# Altium footprint library 封装库.PcbLib: 324 footprints (part 19 of 21)
Each footprint in its own frame and in the unit in brackets; x right, y up, seen from the top. Pads: shape width x height; smd on the part's side, far side on the other; paste and mask are expansions set on the pad; w line width, h text height; cw(c..) or ccw(c..) is an arc to the next point about the centre after c.
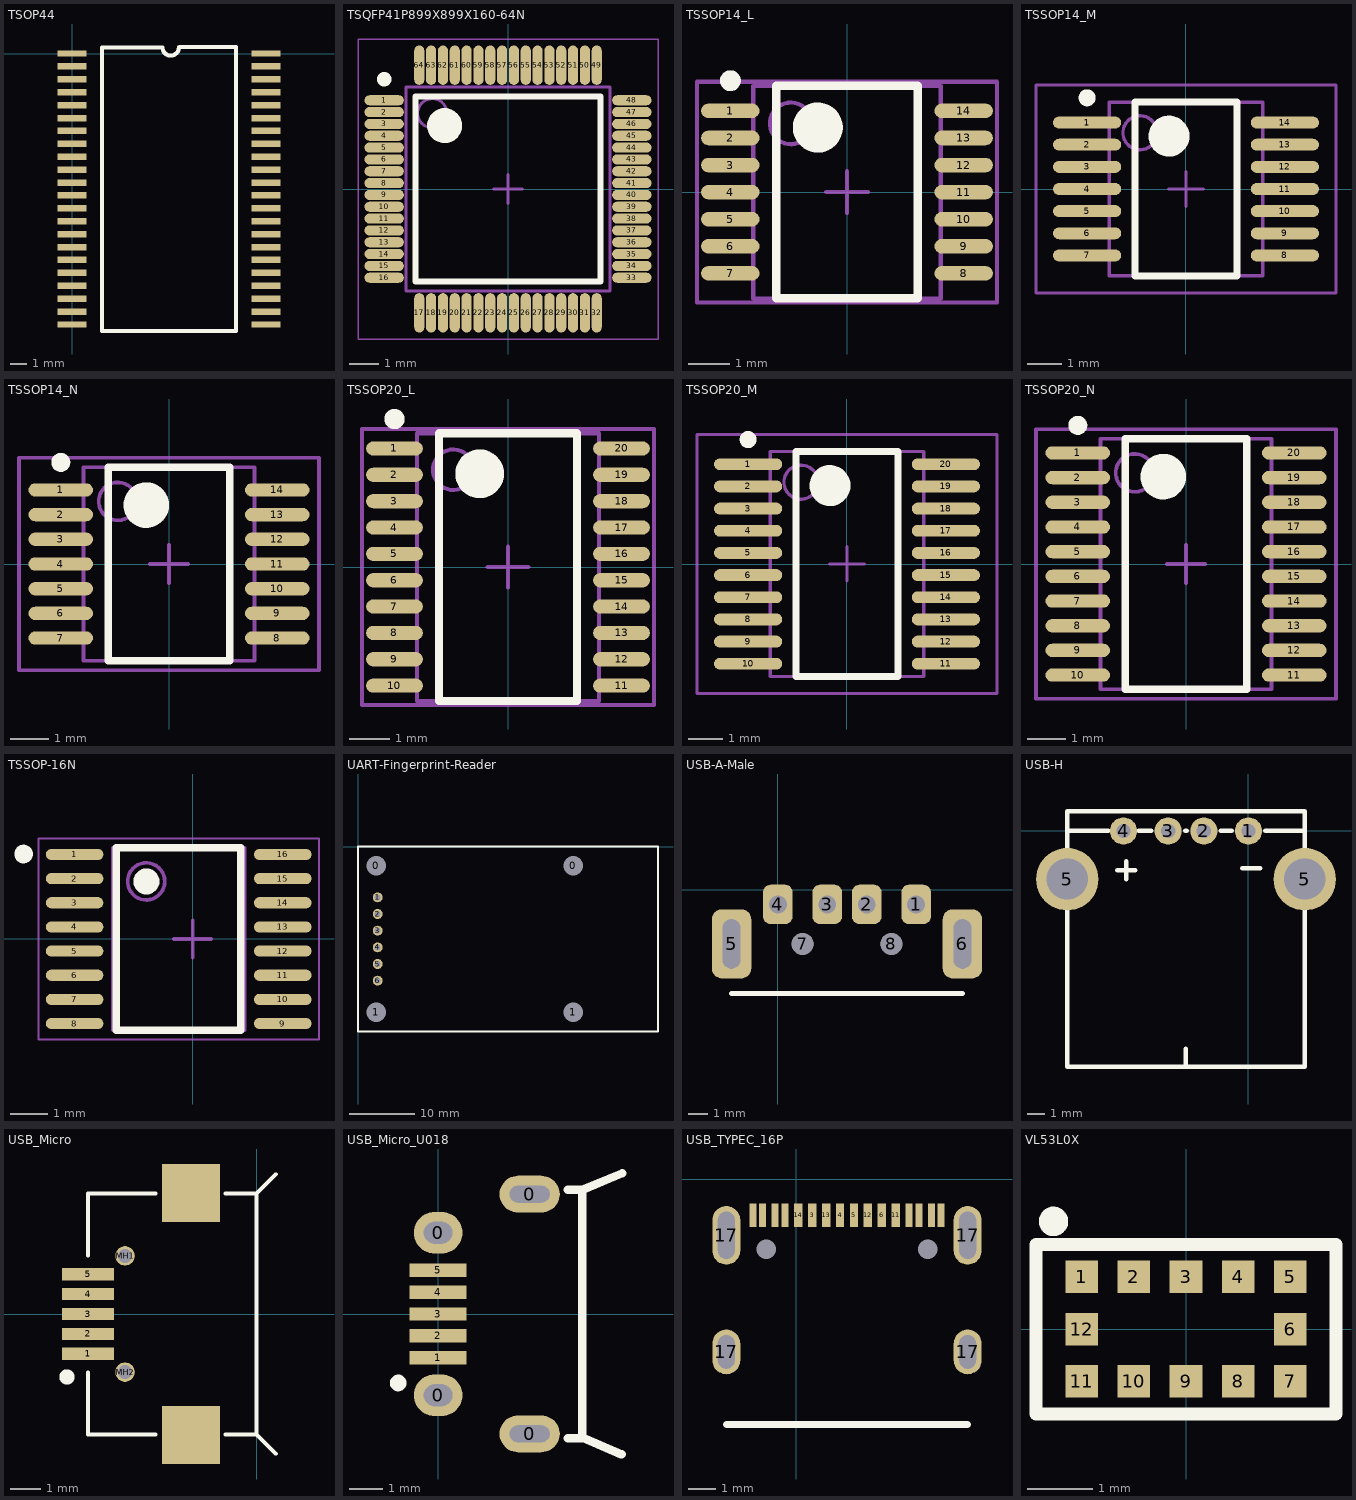
[diagram p18: the footprints below, top view; thin cyan lines are the x and y axes]

## TSOP44 [mm]
pads (44):
  rect 1.8x0.4 smd: 1(-0.009,0.001) 2(-0.009,-0.799) 3(-0.009,-1.599) 4(-0.009,-2.399) 5(-0.009,-3.199) 6(-0.009,-3.999) 7(-0.009,-4.799) 8(-0.009,-5.599) 9(-0.009,-6.399) 10(-0.009,-7.199) 11(-0.009,-7.999) 12(-0.009,-8.799) 13(-0.009,-9.599) 14(-0.009,-10.399) 15(-0.009,-11.199) 16(-0.009,-11.999) 17(-0.009,-12.799) 18(-0.009,-13.599) 19(-0.009,-14.399) 20(-0.009,-15.199) 21(-0.009,-15.999) 22(-0.009,-16.799) 23(11.991,-16.799) 24(11.991,-15.999) 25(11.991,-15.199) 26(11.991,-14.399) 27(11.991,-13.599) 28(11.991,-12.799) 29(11.991,-11.999) 30(11.991,-11.199) 31(11.991,-10.399) 32(11.991,-9.599) 33(11.991,-8.799) 34(11.991,-7.999) 35(11.991,-7.199) 36(11.991,-6.399) 37(11.991,-5.599) 38(11.991,-4.799) 39(11.991,-3.999) 40(11.991,-3.199) 41(11.991,-2.399) 42(11.991,-1.599) 43(11.991,-0.799) 44(11.991,0.001)
Top Overlay:
  lines w0.2: 1.826,-17.199 10.156,-17.199
  lines w0.254: 6.604,0.381 cw(c6.096,0.381) 5.588,0.381 1.846,0.381 1.846,-17.18 1.826,-17.199 10.156,-17.199 ; 6.624,0.401 10.156,0.401 10.156,-17.199 ; 10.156,-17.199 10.156,-17.199

## TSQFP41P899X899X160-64N [mm] "TSQFP, 64-Leads, Body 7.01x7.01mm, Pitch 0.41mm, IPC Medium Density"
height 1.6
pads (64):
  oval 1.35x0.35 smd: 1(-4.25,3.045) 2(-4.25,2.639) 3(-4.25,2.233) 4(-4.25,1.827) 5(-4.25,1.421) 6(-4.25,1.015) 7(-4.25,0.609) 8(-4.25,0.203) 9(-4.25,-0.203) 10(-4.25,-0.609) 11(-4.25,-1.015) 12(-4.25,-1.421) 13(-4.25,-1.827) 14(-4.25,-2.233) 15(-4.25,-2.639) 16(-4.25,-3.045) 33(4.25,-3.045) 34(4.25,-2.639) 35(4.25,-2.233) 36(4.25,-1.827) 37(4.25,-1.421) 38(4.25,-1.015) 39(4.25,-0.609) 40(4.25,-0.203) 41(4.25,0.203) 42(4.25,0.609) 43(4.25,1.015) 44(4.25,1.421) 45(4.25,1.827) 46(4.25,2.233) 47(4.25,2.639) 48(4.25,3.045)
  oval 0.35x1.35 smd: 17(-3.045,-4.25) 18(-2.639,-4.25) 19(-2.233,-4.25) 20(-1.827,-4.25) 21(-1.421,-4.25) 22(-1.015,-4.25) 23(-0.609,-4.25) 24(-0.203,-4.25) 25(0.203,-4.25) 26(0.609,-4.25) 27(1.015,-4.25) 28(1.421,-4.25) 29(1.827,-4.25) 30(2.233,-4.25) 31(2.639,-4.25) 32(3.045,-4.25) 49(3.045,4.25) 50(2.639,4.25) 51(2.233,4.25) 52(1.827,4.25) 53(1.421,4.25) 54(1.015,4.25) 55(0.609,4.25) 56(0.203,4.25) 57(-0.203,4.25) 58(-0.609,4.25) 59(-1.015,4.25) 60(-1.421,4.25) 61(-1.827,4.25) 62(-2.233,4.25) 63(-2.639,4.25) 64(-3.045,4.25)
Top Overlay:
  circle w0.6: c-2.175,2.175 r0.3
  circle w0.25: c-4.25,3.77 r0.125
  lines w0.2: -3.175,-3.175 3.175,-3.175 3.175,3.175 -3.175,3.175 -3.175,-3.175
Mechanical 13:
  circle w0.1: c-2.6,2.6 r0.5
  lines w0.1: -3.5,-3.5 3.5,-3.5 3.5,3.5 -3.5,3.5 -3.5,-3.5
Mechanical 15:
  lines w0.05: -5.15,-5.15 5.15,-5.15 5.15,5.15 -5.15,5.15 -5.15,-5.15
  lines w0.1: -0.5,0 0.5,0 ; 0,-0.5 0,0.5
3D body: height 1.6, standoff 0.05, extent -3.5,-3.5 3.5,3.5

## TSSOP14_L [mm] "TSOP, 14-Leads, Body 5x4.4mm, Pitch 0.65mm, IPC High Density"
height 1.1
pads (14):
  oval 1.4x0.35 smd: 1(-2.8,1.95) 2(-2.8,1.3) 3(-2.8,0.65) 4(-2.8,0) 5(-2.8,-0.65) 6(-2.8,-1.3) 7(-2.8,-1.95) 8(2.8,-1.95) 9(2.8,-1.3) 10(2.8,-0.65) 11(2.8,0) 12(2.8,0.65) 13(2.8,1.3) 14(2.8,1.95)
Top Overlay:
  circle w0.6: c-0.7,1.55 r0.3
  circle w0.25: c-2.8,2.675 r0.125
  lines w0.2: -1.7,-2.55 1.7,-2.55 1.7,2.55 -1.7,2.55 -1.7,-2.55
Mechanical 13:
  circle w0.1: c-1.35,1.65 r0.5
  lines w0.1: -2.25,-2.55 2.25,-2.55 2.25,2.55 -2.25,2.55 -2.25,-2.55
Mechanical 15:
  lines w0.1: -0.5,0 0.5,0 ; 0,-0.5 0,0.5 ; -3.6,-2.65 3.6,-2.65 3.6,2.65 -3.6,2.65 -3.6,-2.65
3D body: height 1.1, standoff 0, extent -2.25,-2.55 2.25,2.55

## TSSOP14_M [mm] "TSOP, 14-Leads, Body 5x4.4mm, Pitch 0.65mm, IPC Low Density"
height 1.1
pads (14):
  oval 2x0.35 smd: 1(-2.9,1.95) 2(-2.9,1.3) 3(-2.9,0.65) 4(-2.9,0) 5(-2.9,-0.65) 6(-2.9,-1.3) 7(-2.9,-1.95) 8(2.9,-1.95) 9(2.9,-1.3) 10(2.9,-0.65) 11(2.9,0) 12(2.9,0.65) 13(2.9,1.3) 14(2.9,1.95)
Top Overlay:
  circle w0.25: c-2.9,2.675 r0.125
  circle w0.6: c-0.5,1.55 r0.3
  lines w0.2: -1.5,-2.55 -1.5,2.55 1.5,2.55 1.5,-2.55 -1.5,-2.55
Mechanical 13:
  circle w0.1: c-1.35,1.65 r0.5
  lines w0.1: -2.25,-2.55 -2.25,2.55 2.25,2.55 2.25,-2.55 -2.25,-2.55
Mechanical 15:
  lines w0.1: -0.5,0 0.5,0 ; 0,-0.5 0,0.5 ; -4.4,-3.05 -4.4,3.05 4.4,3.05 4.4,-3.05 -4.4,-3.05
3D body: height 1.1, standoff 0, extent -2.25,-2.55 2.25,2.55

## TSSOP14_N [mm] "TSOP, 14-Leads, Body 5x4.4mm, Pitch 0.65mm, IPC Medium Density"
height 1.1
pads (14):
  oval 1.7x0.35 smd: 1(-2.85,1.95) 2(-2.85,1.3) 3(-2.85,0.65) 4(-2.85,0) 5(-2.85,-0.65) 6(-2.85,-1.3) 7(-2.85,-1.95) 8(2.85,-1.95) 9(2.85,-1.3) 10(2.85,-0.65) 11(2.85,0) 12(2.85,0.65) 13(2.85,1.3) 14(2.85,1.95)
Top Overlay:
  circle w0.6: c-0.6,1.55 r0.3
  circle w0.25: c-2.85,2.675 r0.125
  lines w0.2: -1.6,-2.55 1.6,-2.55 1.6,2.55 -1.6,2.55 -1.6,-2.55
Mechanical 13:
  circle w0.1: c-1.35,1.65 r0.5
  lines w0.1: -2.25,-2.55 2.25,-2.55 2.25,2.55 -2.25,2.55 -2.25,-2.55
Mechanical 15:
  lines w0.1: -0.5,0 0.5,0 ; 0,-0.5 0,0.5 ; -3.95,-2.8 3.95,-2.8 3.95,2.8 -3.95,2.8 -3.95,-2.8
3D body: height 1.1, standoff 0, extent -2.25,-2.55 2.25,2.55

## TSSOP20_L [mm] "TSOP, 20-Leads, Body 6.5x4.4mm, Pitch 0.65mm, IPC High Density"
height 1.1
pads (20):
  oval 1.4x0.35 smd: 1(-2.8,2.925) 2(-2.8,2.275) 3(-2.8,1.625) 4(-2.8,0.975) 5(-2.8,0.325) 6(-2.8,-0.325) 7(-2.8,-0.975) 8(-2.8,-1.625) 9(-2.8,-2.275) 10(-2.8,-2.925) 11(2.8,-2.925) 12(2.8,-2.275) 13(2.8,-1.625) 14(2.8,-0.975) 15(2.8,-0.325) 16(2.8,0.325) 17(2.8,0.975) 18(2.8,1.625) 19(2.8,2.275) 20(2.8,2.925)
Top Overlay:
  circle w0.6: c-0.7,2.3 r0.3
  circle w0.25: c-2.8,3.65 r0.125
  lines w0.2: -1.7,-3.3 1.7,-3.3 1.7,3.3 -1.7,3.3 -1.7,-3.3
Mechanical 13:
  circle w0.1: c-1.35,2.4 r0.5
  lines w0.1: -2.25,-3.3 2.25,-3.3 2.25,3.3 -2.25,3.3 -2.25,-3.3
Mechanical 15:
  lines w0.1: -0.5,0 0.5,0 ; 0,-0.5 0,0.5 ; -3.6,-3.4 3.6,-3.4 3.6,3.4 -3.6,3.4 -3.6,-3.4
3D body: height 1.1, standoff 0, extent -2.25,-3.3 2.25,3.3

## TSSOP20_M [mm] "TSOP, 20-Leads, Body 6.5x4.4mm, Pitch 0.65mm, IPC Low Density"
height 1.1
pads (20):
  oval 2x0.35 smd: 1(-2.9,2.925) 2(-2.9,2.275) 3(-2.9,1.625) 4(-2.9,0.975) 5(-2.9,0.325) 6(-2.9,-0.325) 7(-2.9,-0.975) 8(-2.9,-1.625) 9(-2.9,-2.275) 10(-2.9,-2.925) 11(2.9,-2.925) 12(2.9,-2.275) 13(2.9,-1.625) 14(2.9,-0.975) 15(2.9,-0.325) 16(2.9,0.325) 17(2.9,0.975) 18(2.9,1.625) 19(2.9,2.275) 20(2.9,2.925)
Top Overlay:
  circle w0.6: c-0.5,2.3 r0.3
  circle w0.25: c-2.9,3.65 r0.125
  lines w0.2: -1.5,-3.3 1.5,-3.3 1.5,3.3 -1.5,3.3 -1.5,-3.3
Mechanical 13:
  circle w0.1: c-1.35,2.4 r0.5
  lines w0.1: -2.25,-3.3 2.25,-3.3 2.25,3.3 -2.25,3.3 -2.25,-3.3
Mechanical 15:
  lines w0.1: -0.5,0 0.5,0 ; 0,-0.5 0,0.5 ; -4.4,-3.8 4.4,-3.8 4.4,3.8 -4.4,3.8 -4.4,-3.8
3D body: height 1.1, standoff 0, extent -2.25,-3.3 2.25,3.3

## TSSOP20_N [mm] "TSOP, 20-Leads, Body 6.5x4.4mm, Pitch 0.65mm, IPC Medium Density"
height 1.1
pads (20):
  oval 1.7x0.35 smd: 1(-2.85,2.925) 2(-2.85,2.275) 3(-2.85,1.625) 4(-2.85,0.975) 5(-2.85,0.325) 6(-2.85,-0.325) 7(-2.85,-0.975) 8(-2.85,-1.625) 9(-2.85,-2.275) 10(-2.85,-2.925) 11(2.85,-2.925) 12(2.85,-2.275) 13(2.85,-1.625) 14(2.85,-0.975) 15(2.85,-0.325) 16(2.85,0.325) 17(2.85,0.975) 18(2.85,1.625) 19(2.85,2.275) 20(2.85,2.925)
Top Overlay:
  circle w0.6: c-0.6,2.3 r0.3
  circle w0.25: c-2.85,3.65 r0.125
  lines w0.2: -1.6,-3.3 1.6,-3.3 1.6,3.3 -1.6,3.3 -1.6,-3.3
Mechanical 13:
  circle w0.1: c-1.35,2.4 r0.5
  lines w0.1: -2.25,-3.3 2.25,-3.3 2.25,3.3 -2.25,3.3 -2.25,-3.3
Mechanical 15:
  lines w0.1: -0.5,0 0.5,0 ; 0,-0.5 0,0.5 ; -3.95,-3.55 3.95,-3.55 3.95,3.55 -3.95,3.55 -3.95,-3.55
3D body: height 1.1, standoff 0, extent -2.25,-3.3 2.25,3.3

## TSSOP-16N [mm] "TSOP, 16-Leads, Body 5.00x4.40mm, Pitch 0.65mm, IPC Medium Density"
height 1.2
pads (16):
  oval 1.55x0.3 smd: 1(-3.175,2.275) 2(-3.175,1.625) 3(-3.175,0.975) 4(-3.175,0.325) 5(-3.175,-0.325) 6(-3.175,-0.975) 7(-3.175,-1.625) 8(-3.175,-2.275) 9(2.425,-2.275) 10(2.425,-1.625) 11(2.425,-0.975) 12(2.425,-0.325) 13(2.425,0.325) 14(2.425,0.975) 15(2.425,1.625) 16(2.425,2.275)
Top Overlay:
  circle w0.4: c-1.245,1.549 r0.15
  circle w0.25: c-4.547,2.286 r0.125
  lines w0.2: -2.05,-2.45 1.3,-2.45 1.3,2.45 -2.05,2.45 -2.05,-2.45
Mechanical 13:
  circle w0.1: c-1.25,1.55 r0.5
  lines w0.1: -2.15,-2.45 1.4,-2.45 1.4,2.45 -2.15,2.45 -2.15,-2.45
Mechanical 15:
  lines w0.05: -4.15,-2.7 3.4,-2.7 3.4,2.7 -4.15,2.7 -4.15,-2.7
  lines w0.1: -0.5,0 0.5,0 ; 0,-0.5 0,0.5
3D body: height 1.2, standoff 0.1, extent -2.15,-2.45 1.4,2.45

## UART-Fingerprint-Reader [mm] "微雪指纹模块"
pads (10):
  round 2 hole 3 unplated: 0(2.79,-2.92) 0(32.79,-2.92) 1(2.79,-25.27) 1(32.79,-25.27)
  round 1.5 hole 0.9 unplated: 1(3,-7.745) 2(3,-10.285) 3(3,-12.825) 4(3,-15.365) 5(3,-17.905) 6(3,-20.445)
Top Overlay:
  lines w0.254: 0,-28.19 0,0 45.72,0 45.72,-28.19 0,-28.19

## USB-A-Male [mm]
pads (8):
  rrect50% 1.5x2 hole 0.9: 1(7,-0.75) 2(4.5,-0.75) 3(2.5,-0.75) 4(0,-0.75)
  rrect50% 2x3.5 hole 0.9 slot 2.5 at 90 deg: 5(-2.35,-2.75) 6(9.35,-2.75)
  round 1.1 hole 1.1 unplated: 7(1.25,-2.75) 8(5.75,-2.75)
Top Overlay:
  lines w0.254: -2.35,-5.25 9.35,-5.25

## USB-H [mm]
pads (6):
  round 1.524 hole 0.8: 1(0,0) 2(-2.5,0) 3(-4.5,0) 4(-7,0)
  round 3.5 hole 2.3: 5(-10.15,-2.7) 5(3.15,-2.7)
Top Overlay:
  lines w0.254: -10.15,0 -7.85,0 ; -7.35,-2.2 -6.35,-2.2 ; -6.85,-2.7 -6.85,-1.7 ; -6.15,0 -5.45,0 ; -3.55,0 -3.45,0 ; -3.51,-13.2 -3.51,-12.2 ; -1.55,0 -0.95,0 ; -0.35,-2.1 0.65,-2.1 ; 0.95,0 3.15,0 ; -10.15,-13.2 3.15,-13.2 3.15,1.1 -10.15,1.1 -10.15,-13.2
3D body "Samtec-USBR-A-S-S-O-TH.STEP": height 7.55, standoff -3.3, extent -11.405,-13.06 4.395,1.1

## USB_Micro [mm] "5P 贴片 带定位柱"
pads (9):
  rect 1.7x0.4 smd: 1(-5.508,-1.3) 2(-5.508,-0.65) 3(-5.508,0) 4(-5.508,0.65) 5(-5.508,1.3)
  round 0.635 hole 0.457 unplated: MH1(-4.3,1.9) MH2(-4.3,-1.9)
  rect 1.9x1.9 smd: ""(-2.15,-3.95) ""(-2.15,3.95)
Top Overlay:
  circle w0.25: c-6.198,-2.057 r0.125
  lines w0.127: -5.508,-3.937 -3.302,-3.937 ; -5.508,-3.9 -5.508,-1.905 ; -5.508,1.905 -5.508,3.9 ; -5.508,3.937 -3.302,3.937 ; -1.016,-3.937 0,-3.937 0.63,-4.567 ; -1.016,3.937 0,3.937 0.63,4.567 ; 0,-3.9 0,3.9

## USB_Micro_U018 [mm] "5P 直插"
pads (9):
  oval 1.45x1.25 hole 0.65 slot 0.85 at 0 deg unplated: 0(0,-2.425) 0(0,2.425)
  oval 1.8x1.1 hole 0.5 slot 1.2 at 0 deg: 0(2.73,-3.575) 0(2.73,3.575)
  rect 1.7x0.4 smd: 1(0,-1.3) 2(0,-0.65) 3(0,0) 4(0,0.65) 5(0,1.3)
Top Overlay:
  circle w0.25: c-1.194,-2.057 r0.125
  lines w0.254: 3.861,-3.7 4.3,-3.7 ; 3.861,3.7 4.293,3.7 5.486,4.2 ; 4.3,3.7 4.3,-3.683 5.47,-4.191

## USB_TYPEC_16P [mm]
pads (22):
  rect 0x0 hole 0.7 unplated: 0(-1.065,-2.5) 0(4.715,-2.5)
  rect 0.25x0.85 smd: 1(-1.2,-1.285) 2(-0.4,-1.285) 7(4.05,-1.285) 8(4.85,-1.285) 9(5.2,-1.285) 10(4.4,-1.285) 15(-0.75,-1.285) 16(-1.55,-1.285)
  rect 0.3x0.85 smd: 3(0.575,-1.285) 4(1.575,-1.285) 5(2.075,-1.285) 6(3.075,-1.285) 11(3.575,-1.285) 12(2.575,-1.285) 13(1.075,-1.285) 14(0.075,-1.285)
  oval 1x1.6 hole 0.6 slot 1.2 at 90 deg: 17(-2.5,-6.18) 17(6.15,-6.18)
  oval 1x2.1 hole 0.6 slot 1.7 at 90 deg: 17(-2.5,-2) 17(6.15,-2)
Top Overlay:
  lines w0.254: -2.5,-8.78 6.15,-8.78

## VL53L0X [mm]
height 1
pads (12):
  rect 0.5x0.5 smd: 1(-1.6,0.8) 2(-0.8,0.8) 3(0,0.8) 4(0.8,0.8) 5(1.6,0.8) 6(1.6,0) 7(1.6,-0.8) 8(0.8,-0.8) 9(0,-0.8) 10(-0.8,-0.8) 11(-1.6,-0.8) 12(-1.6,0)
Top Overlay:
  circle w0.229: c-2.032,1.651 r0.112
  lines w0.2: -2.3,-1.3 -2.3,1.3 2.3,1.3 2.3,-1.3 -2.3,-1.3